# Altium schematic symbol library SN74LVC138ARGYR.SchLib: 1 symbol
Pins are listed as number, name and electrical type; pins without a type are passive.

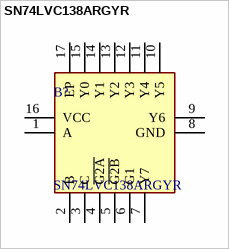
[diagram p0: symbol SN74LVC138ARGYR]

## SN74LVC138ARGYR
designator B?
3-Line To 8-Line decoder/Demultiplexer; Manufacturer_Name: Texas Instruments; Geometry.Height: 1mm; Mouser Part Number: 595-SN74LVC138ARGYR; Mouser Price/Stock: https://www.mouser.co.uk/ProductDetail/Texas-Instruments/SN74LVC138ARGYR?qs=8yeEWhuAOtOzMJPOZax0QA%3D%3D; Manufacturer_Part_Number: SN74LVC138ARGYR; Datasheet Link: http://www.ti.com/lit/gpn/sn74lvc138a
footprint SN74LVC138ARGYR
pins: 1 A, 2 B, 3 C, 4 ~{G2A}, 5 ~{G2B}, 6 G1, 7 Y7, 8 GND, 9 Y6, 10 Y5, 11 Y4, 12 Y3, 13 Y2, 14 Y1, 15 Y0, 16 VCC, 17 EP